# EAGLE library part LTC3113EDHD#TRPBF (library LTC3113EDHD#TRPBF)
Conv DC-DC 1.8V to 5.5V Non-Inv/Inv/Step Up/Step Down Single-Out 1.8V to 5.5V 3A 16-Pin DFN EP T/R Source: Datasheet <https://www.analog.com/media/en/technical-documentation/data-sheets/3113f.pdf>
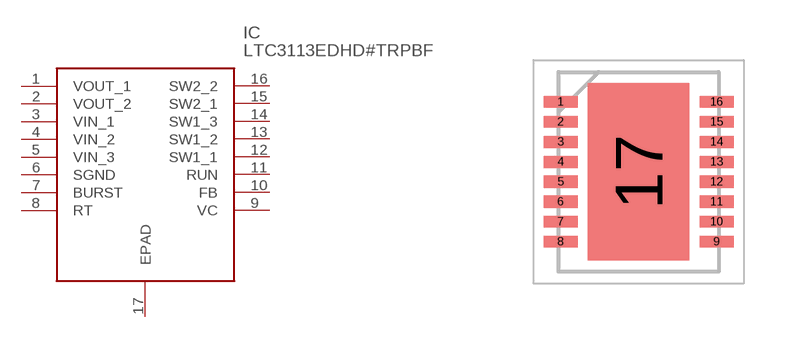
[diagram p0: symbol with the pads of SON50P400X500X80-17N; footprint SON50P400X500X80-17N]

Designator prefix IC

## LTC3113EDHD#TRPBF (Description: Conv DC-DC 1.8V to 5.5V Non-Inv/Inv/Step Up/Step Down Single-Out 1.8V to 5.5V 3A 16-Pin DFN EP T/R; Height: 0.8mm; Manufacturer_Name: Analog Devices; Manufacturer_Part_Number: LTC3113EDHD#TRPBF; Mouser_Part_Number: 584-LTC3113EDHDTRPBF; Mouser_Price-Stock: https://www.mouser.co.uk/ProductDetail/Analog-Devices/LTC3113EDHDTRPBF?qs=hVkxg5c3xu%2Fb1aChqzfx9w%3D%3D)  [SON50P400X500X80-17N]
1  VOUT_1
2  VOUT_2
3  VIN_1
4  VIN_2
5  VIN_3
6  SGND
7  BURST
8  RT
9  VC
10  FB
11  RUN
12  SW1_1
13  SW1_2
14  SW1_3
15  SW2_1
16  SW2_2
17  EPAD

## Footprint SON50P400X500X80-17N (pad centres in mm)
16-Lead Plastic DFN (5mm × 4mm)-1
smd 0.85 x 0.3: 1 -1.95,1.75; 2 -1.95,1.25; 3 -1.95,0.75; 4 -1.95,0.25; 5 -1.95,-0.25; 6 -1.95,-0.75; 7 -1.95,-1.25; 8 -1.95,-1.75; 9 1.95,-1.75; 10 1.95,-1.25; 11 1.95,-0.75; 12 1.95,-0.25; 13 1.95,0.25; 14 1.95,0.75; 15 1.95,1.25; 16 1.95,1.75
smd 2.54 x 4.44: 17 0,0